# Altium footprint library RPSLib_PMIC.PcbLib: 19 footprints (part 1 of 2)
Each footprint in its own frame and in the unit in brackets; x right, y up, seen from the top. Pads: shape width x height; smd on the part's side, far side on the other; paste and mask are expansions set on the pad; w line width, h text height; cw(c..) or ccw(c..) is an arc to the next point about the centre after c.
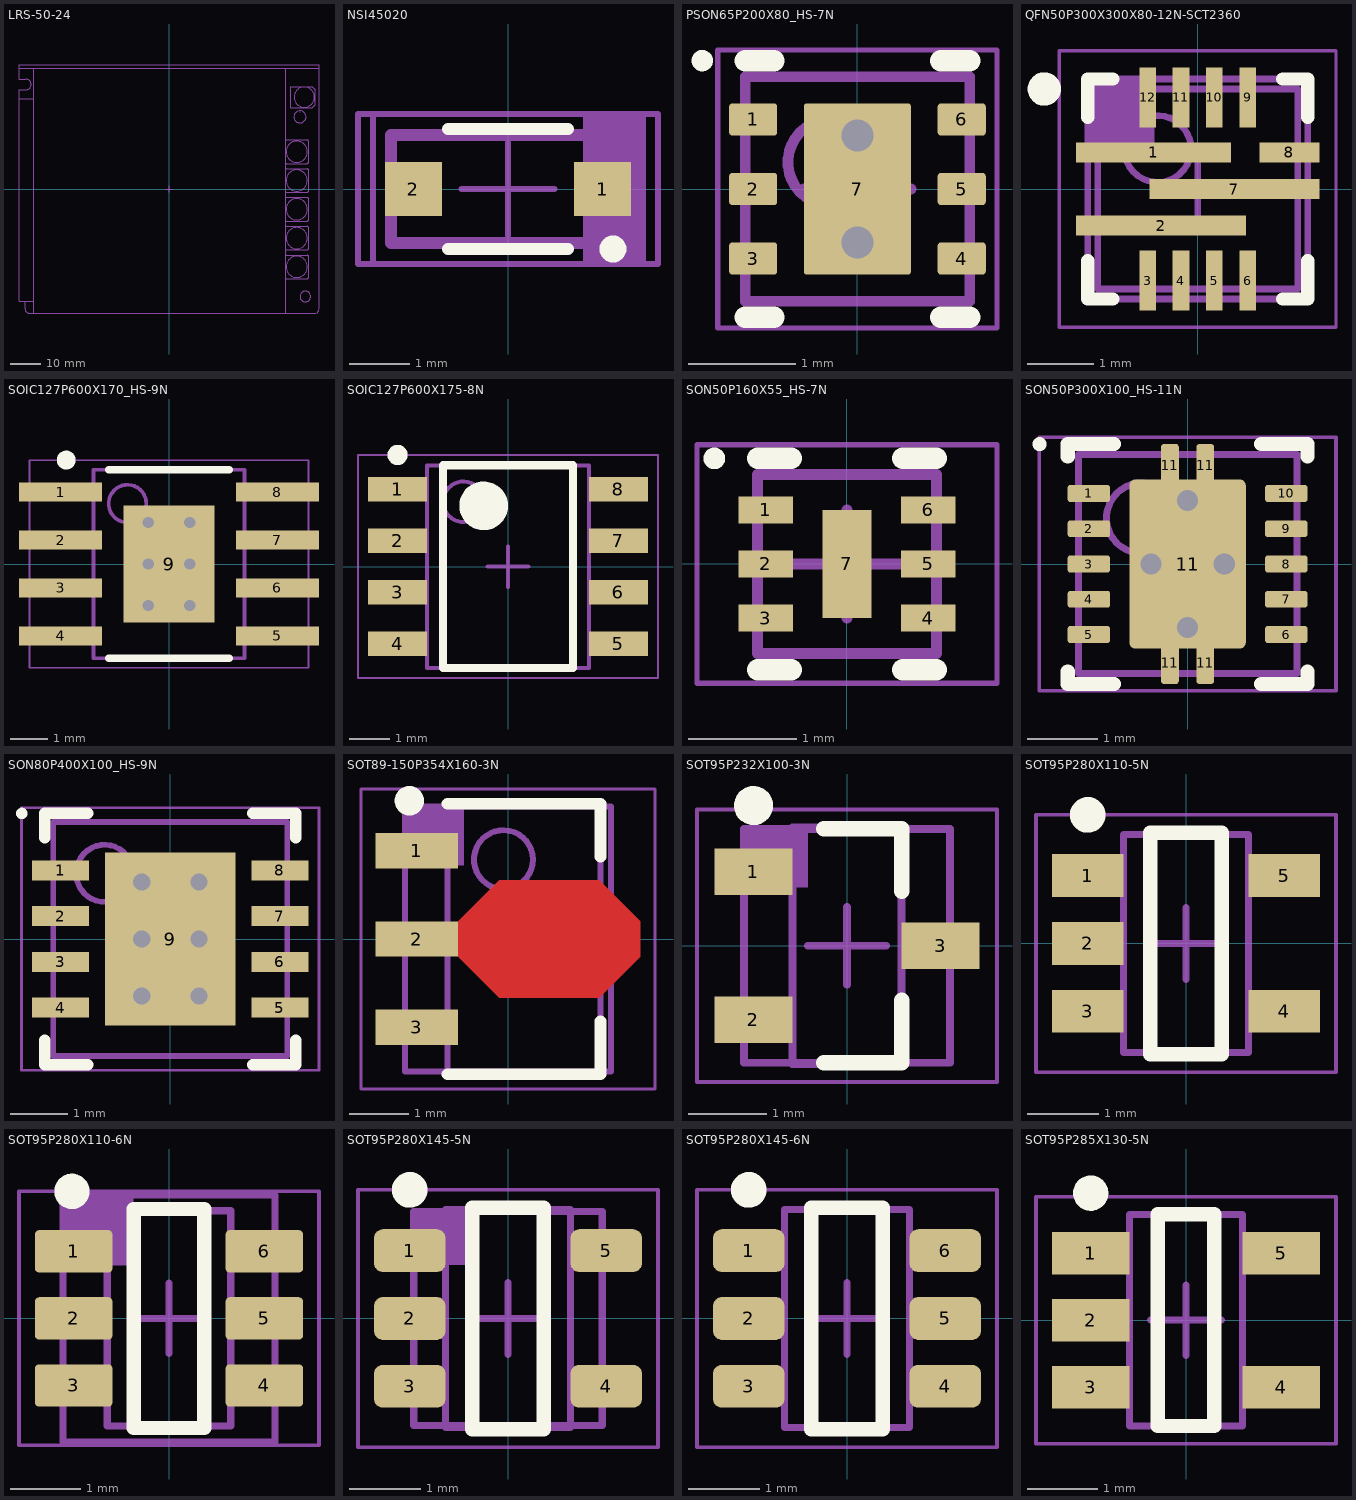
[diagram p0: the footprints below, top view; thin cyan lines are the x and y axes]

## LRS-50-24 [mm] "MeanWell LRS-50"
height 30
Mechanical 13:
  drawing of 172 lines, arcs and shapes, not listed
Mechanical 15:
  lines w0.1: -1,0 1,0 ; 0,-1 0,1
3D body "LRS-50.stp": height 30, standoff 0, extent -49.5,-41 49.5,41

## NSI45020 [mm] "SOD-123"
height 1.35
pads (2):
  rect 0.95x0.9 smd mask+0.075: 1(1.575,0) 2(-1.575,0)
Top Overlay:
  circle w0.25: c1.75,-1 r0.1
  lines w0.2: -1,-1 1,-1 ; -1,1 1,1
Mechanical 1:
  rectangle: 1.25,-1.25 2.25,1.25
  lines w0.1: -2.25,-1.25 2.25,-1.25 2.25,1.25 -2.25,1.25 -2.25,-1.25
  text ".Designator" at -0.826,-0.113 h0.5
Mechanical 13:
  lines w0.2: -1.95,-0.9 -1.95,0.9 1.95,0.9 1.95,-0.9 -1.95,-0.9
Mechanical 15:
  lines w0.1: -0.775,0 0.775,0 ; 0,-0.775 0,0.775 ; -2.5,-1.25 -2.5,1.25 2.5,1.25 2.5,-1.25 -2.5,-1.25
3D body "User Library-SOD123-1.step": height 1.18, standoff 0, extent -1.95,-0.9 1.95,0.9

## PSON65P200X80_HS-7N [mm] "PSON, 6-Leads, Body 2,00x2,00mm, Pitch 0,65mm, Thermal Pad 1,60x0,96mm, IPC Medium Density"
pads (7):
  rrect20% 0.45x0.3 smd paste-0.025 mask+0.07: 1(-0.975,0.65) 2(-0.975,0) 3(-0.975,-0.65) 4(0.975,-0.65) 5(0.975,0) 6(0.975,0.65)
  rrect5% 1x1.6 smd paste-1 mask+0.07: 7(0,0)
via 0,-0.5 diameter 0.5 hole 0.3
via 0,0.5 diameter 0.5 hole 0.3
Top Overlay:
  circle w0.1: c-1.45,1.2 r0.05
  lines w0.2: -1.05,-1.2 -0.78,-1.2 ; -1.05,1.2 -0.78,1.2 ; 0.78,-1.2 1.05,-1.2 ; 0.78,1.2 1.05,1.2
Top Paste:
  rectangle: -0.5,-0.8 0.5,-0.1
  rectangle: -0.5,0.1 0.5,0.8
Mechanical 13:
  circle w0.1: c-0.25,0.25 r0.4
  lines w0.1: -1.05,-1.05 1.05,-1.05 1.05,1.05 -1.05,1.05 -1.05,-1.05
Mechanical 15:
  lines w0.05: -1.305,-1.3 1.305,-1.3 1.305,1.3 -1.305,1.3 -1.305,-1.3
  lines w0.1: -0.5,0 0.5,0 ; 0,-0.5 0,0.5
3D body "PSON65P200X80_HS-7N.step": height 0.8, standoff 0, extent -1.051,-1.05 1.051,1.05

## QFN50P300X300X80-12N-SCT2360 [mm] "QFN, 12-Leads, Body 3,00x3,00mm, Pitch 0,50mm/1,10mm, IPC Medium Density"
height 0.8
pads (12):
  rect 2.325x0.3 smd: 1(-0.663,0.55)
  rect 2.55x0.3 smd: 2(-0.55,-0.55) 7(0.55,0)
  rect 0.25x0.9 smd: 3(-0.75,-1.375) 4(-0.25,-1.375) 5(0.25,-1.375) 6(0.75,-1.375) 9(0.75,1.375) 10(0.25,1.375) 11(-0.25,1.375) 12(-0.75,1.375)
  rect 0.9x0.3 smd: 8(1.375,0.55)
Top Overlay:
  circle w0.25: c-2.3,1.5 r0.125
  lines w0.2: -1.65,-1.075 -1.65,-1.65 -1.275,-1.65 ; -1.65,1.075 -1.65,1.65 -1.275,1.65 ; 1.275,-1.65 1.65,-1.65 1.65,-1.075 ; 1.275,1.65 1.65,1.65 1.65,1.075
Mechanical 1:
  rectangle: -1.65,0.65 -0.65,1.65
  lines w0.1: -1.65,-1.65 1.65,-1.65 1.65,1.65 -1.65,1.65 -1.65,-1.65
  text ".Designator" at -1.126,-0.113 h0.5
Mechanical 13:
  circle w0.1: c-0.6,0.6 r0.5
  lines w0.1: -1.5,-1.5 -1.5,1.5 1.5,1.5 1.5,-1.5 -1.5,-1.5
Mechanical 15:
  lines w0.05: -2.075,-2.075 -2.075,2.075 2.075,2.075 2.075,-2.075 -2.075,-2.075
  lines w0.1: -0.5,0 0.5,0 ; 0,-0.5 0,0.5
3D body "QFN50P300X300X80-12N-SCT2360.step": height 0.8, standoff 0, extent -1.51,-1.51 1.51,1.51

## SOIC127P600X170_HS-9N [mm] "SOIC, 8-Leads, Body 4,90x3,90mm, Pitch 1,27mm, Thermal Pad 3,10x2,40mm, IPC Medium Density"
height 1.7
pads (9):
  rect 2.2x0.5 smd mask+0.07: 1(-2.875,1.905) 2(-2.875,0.635) 3(-2.875,-0.635) 4(-2.875,-1.905) 5(2.875,-1.905) 6(2.875,-0.635) 7(2.875,0.635) 8(2.875,1.905)
  rect 2.4x3.1 smd: 9(0,0)
via 0.55,-1.1 diameter 0.6 hole 0.3
via -0.55,-1.1 diameter 0.6 hole 0.3
via 0.55,0 diameter 0.6 hole 0.3
via -0.55,0 diameter 0.6 hole 0.3
via 0.55,1.1 diameter 0.6 hole 0.3
via -0.55,1.1 diameter 0.6 hole 0.3
Top Overlay:
  circle w0.25: c-2.725,2.755 r0.125
  lines w0.2: -1.6,-2.5 1.6,-2.5 ; -1.6,2.5 1.6,2.5
Mechanical 13:
  circle w0.1: c-1.1,1.6 r0.5
  lines w0.1: -2,-2.5 2,-2.5 2,2.5 -2,2.5 -2,-2.5
Mechanical 15:
  lines w0.05: -3.7,-2.75 3.7,-2.75 3.7,2.75 -3.7,2.75 -3.7,-2.75
  lines w0.1: -0.5,0 0.5,0 ; 0,-0.5 0,0.5
3D body "SOIC127P600X170_HS-9N.step": height 1.7, standoff 0, extent -3,-2.5 3,2.5

## SOIC127P600X175-8N [mm] "SOIC, 8-Leads, Body 4.90x3.90mm, Pitch 1.27mm, IPC Medium Density"
height 1.75
pads (8):
  rect 1.45x0.6 smd paste-0.05: 1(-2.725,1.905) 2(-2.725,0.635) 3(-2.725,-0.635) 4(-2.725,-1.905) 5(2.725,-1.905) 6(2.725,-0.635) 7(2.725,0.635) 8(2.725,1.905)
Top Overlay:
  circle w0.6: c-0.6,1.5 r0.3
  circle w0.25: c-2.725,2.755 r0.125
  lines w0.2: -1.6,-2.5 1.6,-2.5 1.6,2.5 -1.6,2.5 -1.6,-2.5
Mechanical 13:
  circle w0.1: c-1.1,1.6 r0.5
  lines w0.1: -2,-2.5 2,-2.5 2,2.5 -2,2.5 -2,-2.5
Mechanical 15:
  lines w0.05: -3.7,-2.75 3.7,-2.75 3.7,2.75 -3.7,2.75 -3.7,-2.75
  lines w0.1: -0.5,0 0.5,0 ; 0,-0.5 0,0.5
3D body "SOIC127P600X175-8N.step": height 1.75, standoff 0, extent -3,-2.5 3,2.5

## SON50P160X55_HS-7N [mm] "SON, 6-Leads, Body 1,60x1,60mm, Pitch 0,50mm, Thermal Pad 1,00x0,43mm, IPC Medium Density"
height 0.55
pads (7):
  rect 0.5x0.25 smd mask+0.07: 1(-0.75,0.5) 2(-0.75,0) 3(-0.75,-0.5) 4(0.75,-0.5) 5(0.75,0) 6(0.75,0.5)
  rect 0.45x1 smd mask+0.07: 7(0,0)
Top Overlay:
  circle w0.1: c-1.225,0.975 r0.05
  lines w0.2: -0.825,-0.975 -0.515,-0.975 ; -0.825,0.975 -0.515,0.975 ; 0.515,-0.975 0.825,-0.975 ; 0.515,0.975 0.825,0.975
Mechanical 13:
  lines w0.1: -0.825,-0.825 0.825,-0.825 0.825,0.825 -0.825,0.825 -0.825,-0.825
Mechanical 15:
  lines w0.05: -1.385,-1.1 1.385,-1.1 1.385,1.1 -1.385,1.1 -1.385,-1.1
  lines w0.1: -0.5,0 0.5,0 ; 0,-0.5 0,0.5
3D body "SON50P160X55_HS-7N.step": height 0.55, standoff 0, extent -0.875,-0.825 0.875,0.825

## SON50P300X100_HS-11N [mm] "SON, 10-Leads, Body 3,00x3,00mm, Pitch 0,50mm, Thermal Pad 2,40x1,49mm, IPC Medium Density"
height 1
pads (15):
  rrect30% 0.6x0.24 smd: 1(-1.4,1) 2(-1.4,0.5) 3(-1.4,0) 4(-1.4,-0.5) 5(-1.4,-1) 6(1.4,-1) 7(1.4,-0.5) 8(1.4,0) 9(1.4,0.5) 10(1.4,1)
  rrect30% 0.25x0.6 smd mask+0.07: 11(-0.25,-1.4) 11(-0.25,1.4) 11(0.25,-1.4) 11(0.25,1.4)
  rrect10% 1.65x2.4 smd: 11(0,0)
via 0.52,0 diameter 0.6 hole 0.3
via -0.52,0 diameter 0.6 hole 0.3
via 0,-0.9 diameter 0.6 hole 0.3
via 0,0.9 diameter 0.6 hole 0.3
Top Overlay:
  circle w0.1: c-2.1,1.7 r0.05
  lines w0.2: -1.7,-1.525 -1.7,-1.7 -1.045,-1.7 ; -1.7,1.525 -1.7,1.7 -1.045,1.7 ; 1.045,-1.7 1.7,-1.7 1.7,-1.525 ; 1.045,1.7 1.7,1.7 1.7,1.525
Mechanical 13:
  circle w0.1: c-0.65,0.65 r0.5
  lines w0.1: -1.55,-1.55 1.55,-1.55 1.55,1.55 -1.55,1.55 -1.55,-1.55
Mechanical 15:
  lines w0.05: -2.105,-1.8 2.105,-1.8 2.105,1.8 -2.105,1.8 -2.105,-1.8
  lines w0.1: -0.5,0 0.5,0 ; 0,-0.5 0,0.5
3D body "SON50P300X100_HS-11N.step": height 1, standoff 0, extent -1.65,-1.55 1.65,1.55

## SON80P400X100_HS-9N [mm] "SON, 8-Leads, Body 4,00x4,00mm, Pitch 0,80mm, Thermal Pad 3,03x2,29mm, IPC Medium Density"
height 1
pads (9):
  rect 1x0.35 smd mask+0.07: 1(-1.92,1.2) 2(-1.92,0.4) 3(-1.92,-0.4) 4(-1.92,-1.2) 5(1.92,-1.2) 6(1.92,-0.4) 7(1.92,0.4) 8(1.92,1.2)
  rect 2.29x3.03 smd paste-2 mask+0.07: 9(0,0)
via -0.5,1 diameter 0.6 hole 0.3
via 0.5,1 diameter 0.6 hole 0.3
via -0.5,0 diameter 0.6 hole 0.3
via 0.5,0 diameter 0.6 hole 0.3
via -0.5,-1 diameter 0.6 hole 0.3
via 0.5,-1 diameter 0.6 hole 0.3
Top Overlay:
  circle w0.1: c-2.6,2.2 r0.05
  lines w0.2: -2.2,-1.775 -2.2,-2.2 -1.445,-2.2 ; -2.2,1.775 -2.2,2.2 -1.445,2.2 ; 1.445,-2.2 2.2,-2.2 2.2,-1.775 ; 1.445,2.2 2.2,2.2 2.2,1.775
Top Paste:
  rectangle: -1.05,0.1 -0.1,1.42
  rectangle: -1.05,-1.42 -0.1,-0.1
  rectangle: 0.1,0.1 1.05,1.42
  rectangle: 0.1,-1.42 1.05,-0.1
Mechanical 13:
  circle w0.1: c-1.15,1.15 r0.5
  lines w0.1: -2.05,-2.05 -2.05,2.05 2.05,2.05 2.05,-2.05 -2.05,-2.05
Mechanical 15:
  lines w0.05: -2.605,-2.3 -2.605,2.3 2.605,2.3 2.605,-2.3 -2.605,-2.3
  lines w0.1: -0.5,0 0.5,0 ; 0,-0.5 0,0.5
3D body "SON80P400X100_HS-9N.step": height 1, standoff 0, extent -2.15,-2.05 2.15,2.05

## SOT89-150P354X160-3N [mm] "SOT89, 3-Leads, Body 4,50x2,50mm, Pitch 1,50mm, Lead Span 3,5mm, IPC Medium Density"
height 1.6
pads (3):
  rect 1.4x0.6 smd: 1(-1.55,1.5) 2(-1.55,0) 3(-1.55,-1.5)
Top Layer:
  region: -0.85,0.3 -0.15,1 1.55,1 2.25,0.3 2.25,-0.3 1.55,-1 -0.15,-1 -0.85,-0.3
Top Overlay:
  circle w0.25: c-1.677,2.35 r0.125
  lines w0.2: -1.027,-2.3 1.573,-2.3 1.573,-1.4 ; -1.027,2.3 1.573,2.3 1.573,1.4
Mechanical 1:
  rectangle: -1.75,1.25 -0.75,2.25
  lines w0.1: -1.75,-2.25 1.75,-2.25 1.75,2.25 -1.75,2.25 -1.75,-2.25
  text ".Designator" at -0.113,1.126 h0.5
Mechanical 13:
  circle w0.1: c-0.077,1.35 r0.5
  lines w0.1: -1.027,-2.3 -1.027,2.3 1.573,2.3 1.573,-2.3 -1.027,-2.3
Mechanical 15:
  lines w0.05: -2.5,-2.55 -2.5,2.55 2.5,2.55 2.5,-2.55 -2.5,-2.55
  lines w0.1: -0.228,0 0.773,0 ; 0.273,-0.5 0.273,0.5
3D body "SOT89-150P354X160-3N.step": height 1.6, standoff 0, extent -2.2,-2.297 1.6,2.297

## SOT95P232X100-3N [mm] "SOT23, 3-Leads, Body 2.92x2.32mm, Pitch 0.95mm, IPC Medium Density"
height 1
pads (3):
  rect 1x0.6 smd paste-0.03: 1(-1.2,0.95) 2(-1.2,-0.95) 3(1.2,0)
Top Overlay:
  circle w0.25: c-1.2,1.8 r0.125
  lines w0.2: -0.3,-1.5 0.7,-1.5 0.7,-0.7 ; -0.3,1.5 0.7,1.5 0.7,0.7
Mechanical 1:
  rectangle: -1.32,0.75 -0.5,1.5
  lines w0.1: -1.32,-1.5 -1.32,1.5 1.32,1.5 1.32,-1.5 -1.32,-1.5
  text ".Designator" at -0.113,1.126 h0.5
Mechanical 13:
  lines w0.1: -0.7,-1.52 -0.7,1.52 0.7,1.52 0.7,-1.52 -0.7,-1.52
Mechanical 15:
  lines w0.05: -1.925,-1.75 -1.925,1.75 1.925,1.75 1.925,-1.75 -1.925,-1.75
  lines w0.1: -0.5,0 0.5,0 ; 0,-0.5 0,0.5
3D body "SOT95P232X100-3N.step": height 1, standoff 0, extent -1.32,-1.52 1.32,1.52

## SOT95P280X110-5N [mm] "SOT23, 5-Leads, Body 2,90x2,80mm, Pitch 0,95mm, IPC Medium Density"
height 1.1
pads (5):
  rect 1x0.6 smd: 1(-1.375,0.95) 2(-1.375,0) 3(-1.375,-0.95) 4(1.375,-0.95) 5(1.375,0.95)
Top Overlay:
  circle w0.25: c-1.375,1.8 r0.125
  lines w0.2: -0.5,-1.55 0.5,-1.55 0.5,1.55 -0.5,1.55 -0.5,-1.55
Mechanical 13:
  lines w0.1: -0.875,-1.525 -0.875,1.525 0.875,1.525 0.875,-1.525 -0.875,-1.525
Mechanical 15:
  lines w0.05: -2.1,-1.8 -2.1,1.8 2.1,1.8 2.1,-1.8 -2.1,-1.8
  lines w0.1: -0.5,0 0.5,0 ; 0,-0.5 0,0.5
3D body "SOT95P280X110-5N.step": height 1.1, standoff 0, extent -1.5,-1.525 1.5,1.525

## SOT95P280X110-6N [mm] "SOT23, 6-Leads, Body 2,90x2,80mm, Pitch 0,95mm, IPC Medium Density"
height 1.1
pads (6):
  rrect20% 1.1x0.6 smd mask+0.07: 1(-1.35,0.95) 2(-1.35,0) 3(-1.35,-0.95) 4(1.35,-0.95) 5(1.35,0) 6(1.35,0.95)
Top Overlay:
  circle w0.25: c-1.375,1.8 r0.125
  lines w0.2: -0.5,-1.55 -0.5,1.55 0.5,1.55 0.5,-1.55 -0.5,-1.55
Mechanical 1:
  rectangle: -1.5,0.75 -0.5,1.75
  lines w0.1: -1.5,-1.75 -1.5,1.75 1.5,1.75 1.5,-1.75 -1.5,-1.75
  text ".Designator" at -1.126,-0.113 h0.5
Mechanical 13:
  lines w0.1: -0.875,-1.525 0.875,-1.525 0.875,1.525 -0.875,1.525 -0.875,-1.525
Mechanical 15:
  lines w0.05: -2.125,-1.8 2.125,-1.8 2.125,1.8 -2.125,1.8 -2.125,-1.8
  lines w0.1: -0.5,0 0.5,0 ; 0,-0.5 0,0.5
3D body "SOT95P280X110-6N.step": height 1.1, standoff 0, extent -1.525,-1.525 1.525,1.525

## SOT95P280X145-5N [mm] "SOT23, 5-Leads, Body 2.90x2.80mm, Pitch 0.95mm, IPC Medium Density"
height 1.45
pads (5):
  rrect40% 1x0.6 smd paste-0.05 mask+0.07: 1(-1.375,0.95) 2(-1.375,0) 3(-1.375,-0.95) 4(1.375,-0.95) 5(1.375,0.95)
Top Overlay:
  circle w0.25: c-1.375,1.8 r0.125
  lines w0.2: -0.5,-1.55 -0.5,1.55 0.5,1.55 0.5,-1.55 -0.5,-1.55
Mechanical 1:
  rectangle: -1.32,0.75 -0.5,1.5
  lines w0.1: -1.32,-1.5 -1.32,1.5 1.32,1.5 1.32,-1.5 -1.32,-1.5
  text ".Designator" at -0.113,1.126 h0.5
Mechanical 13:
  lines w0.1: -0.875,-1.525 0.875,-1.525 0.875,1.525 -0.875,1.525 -0.875,-1.525
Mechanical 15:
  lines w0.05: -2.1,-1.8 2.1,-1.8 2.1,1.8 -2.1,1.8 -2.1,-1.8
  lines w0.1: -0.5,0 0.5,0 ; 0,-0.5 0,0.5
3D body "SOT95P280X145-5N.step": height 1.45, standoff 0, extent -1.5,-1.525 1.5,1.525

## SOT95P280X145-6N [mm] "SOT23, 6-Leads, Body 2.92x2.80mm, Pitch 0.95mm, IPC Medium Density"
height 1.45
pads (6):
  rrect40% 1x0.6 smd mask+0.07: 1(-1.375,0.95) 2(-1.375,0) 3(-1.375,-0.95) 4(1.375,-0.95) 5(1.375,0) 6(1.375,0.95)
Top Overlay:
  circle w0.25: c-1.375,1.8 r0.125
  lines w0.2: -0.5,-1.55 -0.5,1.55 0.5,1.55 0.5,-1.55 -0.5,-1.55
Mechanical 13:
  lines w0.1: -0.875,-1.525 0.875,-1.525 0.875,1.525 -0.875,1.525 -0.875,-1.525
Mechanical 15:
  lines w0.05: -2.1,-1.8 2.1,-1.8 2.1,1.8 -2.1,1.8 -2.1,-1.8
  lines w0.1: -0.5,0 0.5,0 ; 0,-0.5 0,0.5
3D body "SOT95P280X145-6N_.step": height 1.45, standoff 0, extent -1.6,-1.525 1.6,1.525

## SOT95P285X130-5N [mm] "SOT23, 5-Leads, Body 2,95x2,85mm, Pitch 0,95mm, IPC Medium Density"
height 1.3
pads (5):
  rect 1.1x0.6 smd: 1(-1.35,0.95) 2(-1.35,0) 3(-1.35,-0.95) 4(1.35,-0.95) 5(1.35,0.95)
Top Overlay:
  circle w0.25: c-1.35,1.8 r0.125
  lines w0.2: -0.4,-1.5 -0.4,1.5 0.4,1.5 0.4,-1.5 -0.4,-1.5
Mechanical 13:
  lines w0.1: -0.8,-1.5 0.8,-1.5 0.8,1.5 -0.8,1.5 -0.8,-1.5
Mechanical 15:
  lines w0.05: -2.125,-1.75 2.125,-1.75 2.125,1.75 -2.125,1.75 -2.125,-1.75
  lines w0.1: -0.5,0 0.5,0 ; 0,-0.5 0,0.5
3D body "SOT95P285X130-5N.step": height 1.3, standoff 0, extent -1.5,-1.5 1.5,1.5